# EAGLE library part STM32F042G (library oresat-batteries)
STM32 Microcontroller http://www.st.com/content/st_com/en/products/microcontrollers/stm32-32-bit-arm-cortex-mcus.html?querycriteria=productId=SC1169
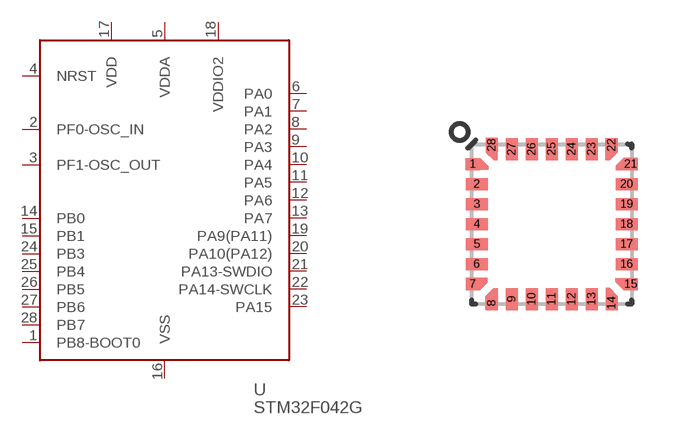
[diagram p3: symbol with the pads of UFQFPN-28; footprint UFQFPN-28]

Designator prefix -

## STM32F042G  [UFQFPN-28]
1  PB8-BOOT0
2  PF0-OSC_IN
3  PF1-OSC_OUT
4  NRST
5  VDDA  pwr
6  PA0
7  PA1
8  PA2
9  PA3
10  PA4
11  PA5
12  PA6
13  PA7
14  PB0
15  PB1
16  VSS  pwr
17  VDD  pwr
18  VDDIO2  pwr
19  PA9(PA11)
20  PA10(PA12)
21  PA13-SWDIO
22  PA14-SWCLK
23  PA15
24  PB3
25  PB4
26  PB5
27  PB6
28  PB7

## Footprint UFQFPN-28 (pad centres in mm)
QFPN-28 7x7 x 1.8mm Source: http://www.st.com/stonline/products/literature/ds/11115/lis3lv02dq.pdf
smd 0.35 x 0.3: 1 -1.975,1.5; 7 -1.975,-1.5; 15 1.975,-1.5; 21 1.975,1.5
smd 0.55 x 0.3: 2 -1.875,1; 3 -1.875,0.5; 4 -1.875,0; 5 -1.875,-0.5; 6 -1.875,-1; 16 1.875,-1; 17 1.875,-0.5; 18 1.875,0; 19 1.875,0.5; 20 1.875,1
smd 0.3 x 0.35: 8 -1.5,-1.975; 14 1.5,-1.975; 22 1.5,1.975; 28 -1.5,1.975
smd 0.3 x 0.55: 9 -1,-1.875; 10 -0.5,-1.875; 11 0,-1.875; 12 0.5,-1.875; 13 1,-1.875; 23 1,1.875; 24 0.5,1.875; 25 0,1.875; 26 -0.5,1.875; 27 -1,1.875